# Altium footprint library ARMflash_C_V5_1.PcbLib: 72 footprints (part 5 of 5)
Each footprint in its own frame and in the unit in brackets; x right, y up, seen from the top. Pads: shape width x height; smd on the part's side, far side on the other; paste and mask are expansions set on the pad; w line width, h text height; cw(c..) or ccw(c..) is an arc to the next point about the centre after c.
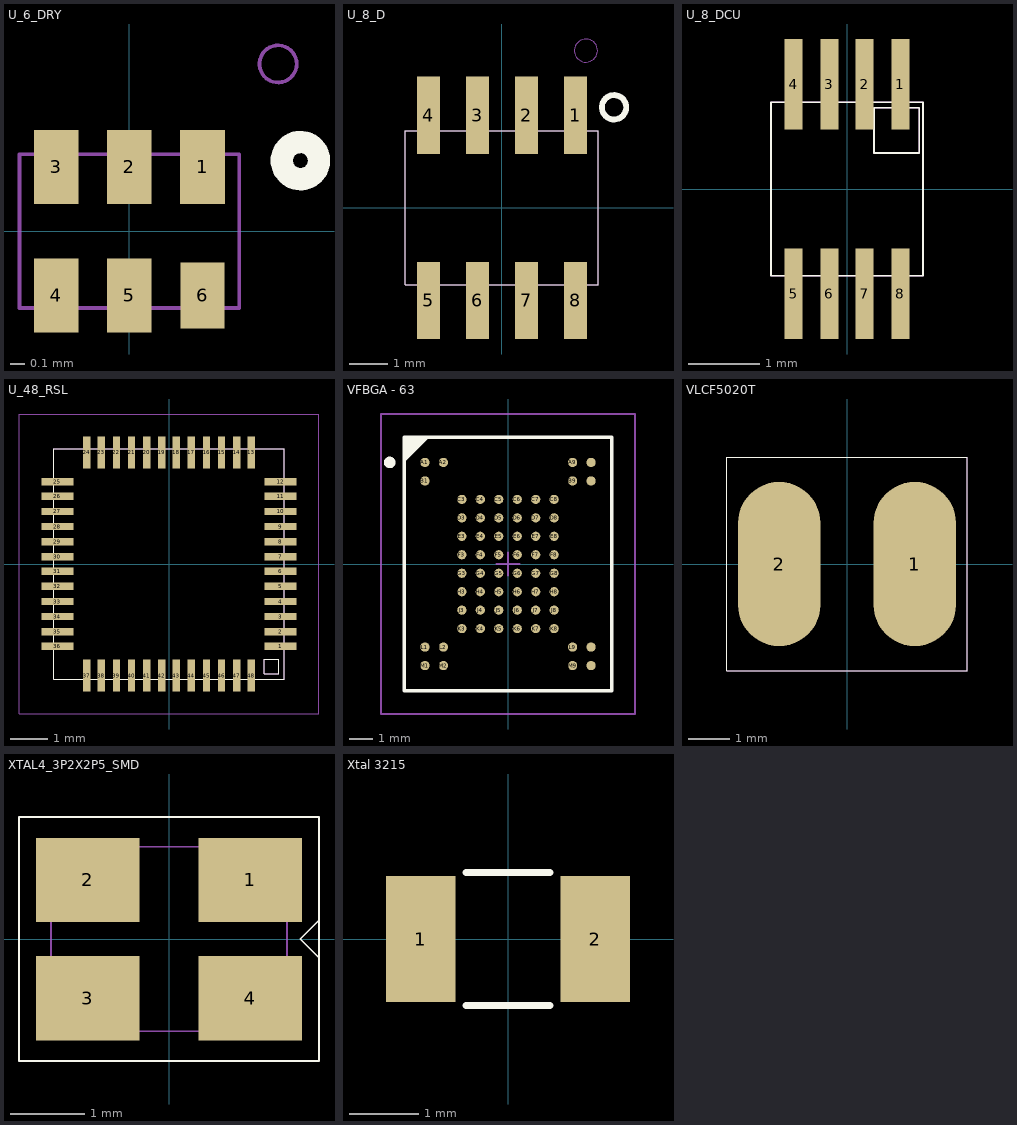
[diagram p4: the footprints below, top view; thin cyan lines are the x and y axes]

## U_6_DRY [mil] "U_6_DRY"
pads (6):
  rect 12x20 smd paste-1.18 mask+1.18: 1(19.68,17.28) 2(0,17.28) 3(-19.68,17.28) 4(-19.68,-17.28) 5(0,-17.28)
  rect 11.81x17.72 smd paste-1.18 mask+1.18: 6(19.68,-17.28)
Top Overlay:
  circle w6: c46,19 r5
Mechanical 16:
  circle w1: c40,45 r5
  lines w1: -29.53,-20.67 -29.53,20.67 29.53,20.67 29.53,-20.67 -29.53,-20.67

## U_8_D [mm] "U_8_D"
pads (8):
  rect 0.6x2 smd paste-0.03: 1(1.905,2.4) 2(0.635,2.4) 3(-0.635,2.4) 4(-1.905,2.4) 5(-1.905,-2.4) 6(-0.635,-2.4) 7(0.635,-2.4) 8(1.905,-2.4)
Top Overlay:
  circle w0.152: c2.908,2.605 r0.316
  lines w0.025: -2.5,-2 2.5,-2 2.5,2 -2.5,2 -2.5,-2
Mechanical 16:
  circle w0.025: c2.179,4.075 r0.3
  lines w0.025: -2.5,-2 2.5,-2 2.5,2 -2.5,2 -2.5,-2
  text "1" at 2.217,2.925 h0.64
  text "1" at 1.651,2.4 h0.64
  text "3" at -0.889,2.4 h0.64
  text "2" at 0.381,2.4 h0.64
  text "7" at 0.381,-2.4 h0.64
  text "8" at 1.651,-2.4 h0.64
  text "6" at -0.889,-2.4 h0.64
  text "4" at -2.159,2.4 h0.64
  text "5" at -2.159,-2.4 h0.64

## U_8_DCU [mil] "U_8_DCU"
pads (8):
  rect 10x50 smd paste-0.39 mask+1.18: 1(29.5,58) 2(9.8,58) 3(-9.8,58) 4(-29.5,58) 5(-29.5,-58) 6(-9.8,-58) 7(9.8,-58) 8(29.5,-58)
Top Overlay:
  lines w1: -42,-48 -42,48 42,48 42,-48 -42,-48 ; 15,20 15,45 40,45 40,20 15,20
Mechanical 16:
  lines w1: -42,-48 -42,48 42,48 42,-48 -42,-48 ; 15,20 15,45 40,45 40,20 15,20

## U_48_RSL [mm] "U_48_RSL"
pads (48):
  rect 0.85x0.2 smd paste-0.01 mask+0.05: 1(2.975,-2.2) 2(2.975,-1.8) 3(2.975,-1.4) 4(2.975,-1) 5(2.975,-0.6) 6(2.975,-0.2) 7(2.975,0.2) 8(2.975,0.6) 9(2.975,1) 10(2.975,1.4) 11(2.975,1.8) 12(2.975,2.2) 25(-2.975,2.2) 26(-2.975,1.8) 27(-2.975,1.4) 28(-2.975,1) 29(-2.975,0.6) 30(-2.975,0.2) 31(-2.975,-0.2) 32(-2.975,-0.6) 33(-2.975,-1) 34(-2.975,-1.4) 35(-2.975,-1.8) 36(-2.975,-2.2)
  rect 0.2x0.85 smd paste-0.01 mask+0.05: 13(2.2,2.975) 14(1.8,2.975) 15(1.4,2.975) 16(1,2.975) 17(0.6,2.975) 18(0.2,2.975) 19(-0.2,2.975) 20(-0.6,2.975) 21(-1,2.975) 22(-1.4,2.975) 23(-1.8,2.975) 24(-2.2,2.975) 37(-2.2,-2.975) 38(-1.8,-2.975) 39(-1.4,-2.975) 40(-1,-2.975) 41(-0.6,-2.975) 42(-0.2,-2.975) 43(0.2,-2.975) 44(0.6,-2.975) 45(1,-2.975) 46(1.4,-2.975) 47(1.8,-2.975) 48(2.2,-2.975)
Top Overlay:
  lines w0.025: -3.075,-3.075 3.075,-3.075 3.075,3.075 -3.075,3.075 -3.075,-3.075 ; 2.54,-2.921 2.921,-2.921 2.921,-2.54 2.54,-2.54 2.54,-2.921
Top Paste:
  lines w0.025: -1.8,-2.25 -0.65,-2.25 -0.65,-1.1 -1.8,-1.1 -1.8,-2.25 ; -1.8,-0.8 -0.65,-0.8 -0.65,0.35 -1.8,0.35 -1.8,-0.8 ; -1.8,0.65 -0.65,0.65 -0.65,1.8 -1.8,1.8 -1.8,0.65 ; -0.35,-2.25 0.8,-2.25 0.8,-1.1 -0.35,-1.1 -0.35,-2.25 ; -0.35,-0.8 0.8,-0.8 0.8,0.35 -0.35,0.35 -0.35,-0.8 ; -0.35,0.65 0.8,0.65 0.8,1.8 -0.35,1.8 -0.35,0.65 ; 1.1,-2.25 2.25,-2.25 2.25,-1.1 1.1,-1.1 1.1,-2.25 ; 1.1,-0.8 2.25,-0.8 2.25,0.35 1.1,0.35 1.1,-0.8 ; 1.1,0.65 2.25,0.65 2.25,1.8 1.1,1.8 1.1,0.65
Mechanical 16:
  lines w0.025: -4,-4 4,-4 4,4 -4,4 -4,-4 ; -3.075,-3.075 3.075,-3.075 3.075,3.075 -3.075,3.075 -3.075,-3.075 ; 2.54,-2.921 2.921,-2.921 2.921,-2.54 2.54,-2.54 2.54,-2.921
  text "1" at 3.653,-2.044 h0.64
  text "21" at -1,1.959 h0.64
  text "16" at 1,1.959 h0.64
  text "20" at -0.6,1.959 h0.64
  text "17" at 0.6,1.959 h0.64
  text "PPAD" at 0.225,-2.257 h0.64
  text "15" at 1.4,1.959 h0.64
  text "22" at -1.4,1.959 h0.64
  text "24" at -2.2,1.959 h0.64
  text "6" at 2.975,-0.708 h0.64
  text "3" at 2.975,-1.908 h0.64
  text "13" at 2.2,1.959 h0.64
  text "23" at -1.8,1.959 h0.64
  text "7" at 2.975,-0.308 h0.64
  text "4" at 2.975,-1.508 h0.64
  text "14" at 1.8,1.959 h0.64
  text "11" at 2.975,0.784 h0.64
  text "10" at 2.975,0.384 h0.64
  text "18" at 0.2,1.959 h0.64
  text "9" at 2.975,0.492 h0.64
  text "8" at 2.975,0.092 h0.64
  text "12" at 2.975,1.184 h0.64
  text "2" at 2.975,-2.308 h0.64
  text "5" at 2.975,-1.108 h0.64
  text "31" at -2.975,-1.216 h0.64
  text "1" at 2.975,-2.708 h0.64
  text "19" at -0.2,1.959 h0.64

## VFBGA - 63 [mm] "ONFI Flash NAND flash"
height 1
pads (63):
  round 0.4 smd paste-0.01: A1(-3.6,4.4) A2(-2.8,4.4) A9(2.8,4.4) A10(3.6,4.4) B1(-3.6,3.6) B9(2.8,3.6) B10(3.6,3.6) C3(-2,2.8) C4(-1.2,2.8) C5(-0.4,2.8) C6(0.4,2.8) C7(1.2,2.8) C8(2,2.8) D3(-2,2) D4(-1.2,2) D5(-0.4,2) D6(0.4,2) D7(1.2,2) D8(2,2) E3(-2,1.2) E4(-1.2,1.2) E5(-0.4,1.2) E6(0.4,1.2) E7(1.2,1.2) E8(2,1.2) F3(-2,0.4) F4(-1.2,0.4) F5(-0.4,0.4) F6(0.4,0.4) F7(1.2,0.4) F8(2,0.4) G3(-2,-0.4) G4(-1.2,-0.4) G5(-0.4,-0.4) G6(0.4,-0.4) G7(1.2,-0.4) G8(2,-0.4) H3(-2,-1.2) H4(-1.2,-1.2) H5(-0.4,-1.2) H6(0.4,-1.2) H7(1.2,-1.2) H8(2,-1.2) J3(-2,-2) J4(-1.2,-2) J5(-0.4,-2) J6(0.4,-2) J7(1.2,-2) J8(2,-2) K3(-2,-2.8) K4(-1.2,-2.8) K5(-0.4,-2.8) K6(0.4,-2.8) K7(1.2,-2.8) K8(2,-2.8) L1(-3.6,-3.6) L2(-2.8,-3.6) L9(2.8,-3.6) L10(3.6,-3.6) M1(-3.6,-4.4) M2(-2.8,-4.4) M9(2.8,-4.4) M10(3.6,-4.4)
Top Overlay:
  circle w0.25: c-5.125,4.4 r0.125
  region: -3.5,5.5 -4.5,4.5 -4.5,5.5
  lines w0.15: -4.5,4.5 -3.5,5.5 ; -4.5,-5.5 4.5,-5.5 4.5,5.5 -4.5,5.5 -4.5,-5.5
Mechanical 13:
  lines w0.1: -4.5,-5.5 4.5,-5.5 4.5,5.5 -4.5,5.5 -4.5,-5.5
Mechanical 15:
  lines w0.1: -0.5,0 0.5,0 ; 0,-0.5 0,0.5 ; -5.5,-6.5 5.5,-6.5 5.5,6.5 -5.5,6.5 -5.5,-6.5
3D body: height 1, standoff 0.1, extent -4.5,-5.5 4.5,5.5

## VLCF5020T [mm]
pads (2):
  oval 2x4 smd paste-0.01: 1(1.651,0) 2(-1.651,0)
Top Overlay:
  lines w0.025: -2.921,-2.6 -2.921,2.6 2.921,2.6 2.921,-2.6 -2.921,-2.6
Top Solder:
  region: 0.635,-2.286 0.635,2.413 1.968,2.413 2.794,1.587 2.794,-1.46 2.072,-2.286
  region: -0.635,2.413 -0.635,-2.286 -2.095,-2.286 -2.794,-1.587 -2.794,1.46 -1.961,2.413
Mechanical 16:
  lines w0.025: -2.921,-2.6 -2.921,2.6 2.921,2.6 2.921,-2.6 -2.921,-2.6
  text "2" at -1.7,-0.254 h0.64
  text "1" at 1.7,-0.254 h0.64

## XTAL4_3P2X2P5_SMD [mil] "XTAL4_3P2X2P5_SMD"
pads (4):
  rect 55x45 smd paste-1.18: 1(43.31,31.5) 2(-43.31,31.5) 3(-43.31,-31.5) 4(43.31,-31.5)
Top Overlay:
  lines w1: 80,-10 70,0 80,10 ; -80,-65 80,-65 80,65 -80,65 -80,-65
Mechanical 16:
  circle w12: c40.43,31.21 r10
  lines w1: -62.99,-49.21 62.99,-49.21 62.99,49.21 0,49.21 -62.99,49.21 -62.99,-49.21
  text "2" at -43.31,11.34 h25.2
  text "1" at 43.31,11.34 h25.2

## Xtal 3215 [mm] "euroquartz 32kHz Xtal"
height 0.9
pads (2):
  rect 1x1.8 smd paste-0.03: 1(-1.25,0) 2(1.25,0)
Top Overlay:
  lines w0.1: -0.6,-0.95 0.6,-0.95 ; -0.6,0.95 0.6,0.95